# EAGLE library part SDMALEPCB (library SKAARHOJ)
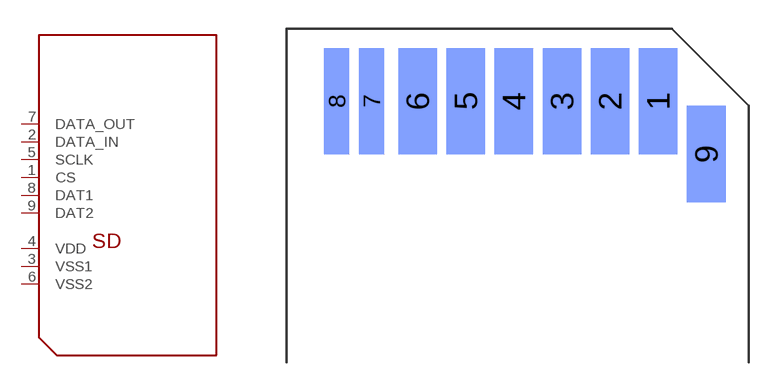
[diagram p24: symbol with the pads of SD_MALEPCB; footprint SD_MALEPCB]

Designator prefix -

## SDMALEPCB  [SD_MALEPCB]
1  CS  in
2  DATA_IN  in
3  VSS1  sup
4  VDD  sup
5  SCLK  in
6  VSS2  sup
7  DATA_OUT  out
8  DAT1
9  DAT2

## Footprint SD_MALEPCB (pad centres in mm)
smd 2 x 5.5 bottom: 1 7.3,-3.75; 2 4.8,-3.75; 3 2.3,-3.75; 4 -0.2,-3.75; 5 -2.7,-3.75; 6 -5.2,-3.75
smd 1.3 x 5.5 bottom: 7 -7.6,-3.75; 8 -9.4,-3.75
smd 2 x 5 bottom: 9 9.8,-6.5